# EAGLE library part RT31* (library relay)
Power PCB Relayl SCHRACK 1 pole 12 / 16 A, DC- or AC-coi Source: http://www.schrack.com/.. 5819.pdf
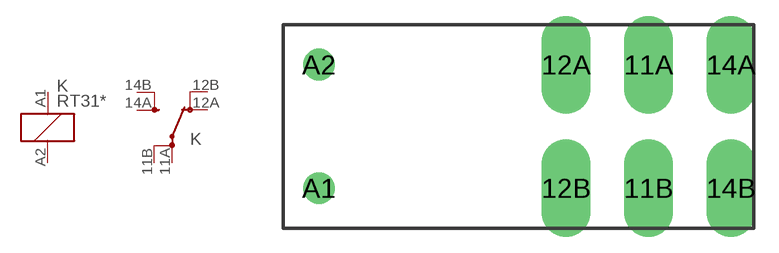
[diagram p9: symbol with the pads of RT-C/O16A5; footprint RT-C/O16A5]

Designator prefix K; gates 1=K 2=U-X2

## RT314005 (MPN: RT314005; OC_FARNELL: 1629043; OC_NEWARK: 03P2418), RT314006 (OC_FARNELL: unknown; OC_NEWARK: unknown), RT314012 (MPN: RT314012; OC_FARNELL: 1629044; OC_NEWARK: 03P2419), RT314024 (MF: TYCO ELECTRONICS; MPN: RT314024; OC_FARNELL: 1629045; OC_NEWARK: 36K2037), RT314048 (MPN: RT314048; OC_FARNELL: 1629046; OC_NEWARK: 03P2421), RT314060 (MPN: RT314060; OC_FARNELL: unknown; OC_NEWARK: 16R6367), RT314110 (MPN: RT314110; OC_FARNELL: unknown; OC_NEWARK: 48M7956), RT314524 (MPN: RT314524; OC_FARNELL: 1629047; OC_NEWARK: 03P2422), RT314615 (MF: TYCO ELECTRONICS; MPN: RT314615; OC_FARNELL: 1629048; OC_NEWARK: 08H3745), RT314730 (MPN: RT314730; OC_FARNELL: 1629051; OC_NEWARK: 03P2424)  [RT-C/O16A5]
11A  2:PA  pas
11B  2:PB  pas
12A  2:OA  pas
12B  2:OB  pas
14A  2:SA  pas
14B  2:SB  pas
A1  1:1  pas
A2  1:2  pas

## Footprint RT-C/O16A5 (pad centres in mm)
Power PCB Relay 1 pole 12 / 16 A, DC- or AC-coil SCHRACK 16 A, pinning 5mm Source: http://www.schrack.com/.. 5819.pdf
drill 1.3 pad 3 long: 11A 7.56,3.78; 11B 7.56,-3.78; 12A 2.52,3.78; 12B 2.52,-3.78; 14A 12.6,3.78; 14B 12.6,-3.78
drill 1.3: A1 -12.6,-3.78; A2 -12.6,3.78